# Altium schematic symbol library PinLutowniczy.SchLib: 3 symbols
Pins are listed as number, name and electrical type; pins without a type are passive.

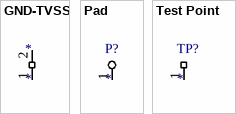
[diagram p0: symbols GND-TVSS to Test Point]

## GND-TVSS
designator *  (net tie, no BOM)
footprint GND-TVSS
pins: 1, 2

## Pad
designator P?
footprint pad
pins: 1

## Test Point
designator TP?
footprint pad
pins: 1